# EAGLE library part STLINKV3MODS (library user_ic)
STlinkV3mods stlinkv3miniを基板上につけられるようにしたデバッグモジュール digikey[497-STLINK-V3MODS-ND] B = Bridge RESERVED = 予約済みのピン、利用不可
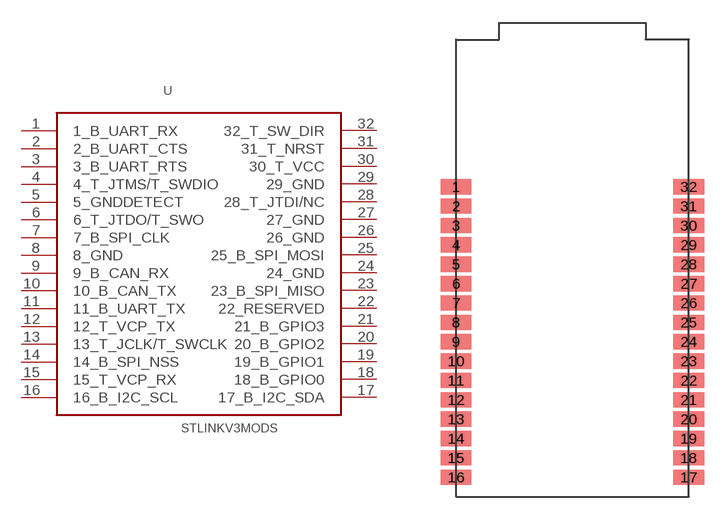
[diagram p27: symbol with the pads of STLINKV3MODS; footprint STLINKV3MODS]

Designator prefix -

## STLINKV3MODS  [STLINKV3MODS]
1  1_B_UART_RX
2  2_B_UART_CTS
3  3_B_UART_RTS
4  4_T_JTMS/T_SWDIO
5  5_GNDDETECT
6  6_T_JTDO/T_SWO
7  7_B_SPI_CLK
8  8_GND
9  9_B_CAN_RX
10  10_B_CAN_TX
11  11_B_UART_TX
12  12_T_VCP_TX
13  13_T_JCLK/T_SWCLK
14  14_B_SPI_NSS
15  15_T_VCP_RX
16  16_B_I2C_SCL
17  17_B_I2C_SDA
18  18_B_GPIO0
19  19_B_GPIO1
20  20_B_GPIO2
21  21_B_GPIO3
22  22_RESERVED
23  23_B_SPI_MISO
24  24_GND
25  25_B_SPI_MOSI
26  26_GND
27  27_GND
28  28_T_JTDI/NC
29  29_GND
30  30_T_VCC
31  31_T_NRST
32  32_T_SW_DIR

## Footprint STLINKV3MODS (pad centres in mm)
smd 2 x 1: 1 0,20.32; 2 0,19.05; 3 0,17.78; 4 0,16.51; 5 0,15.24; 6 0,13.97; 7 0,12.7; 8 0,11.43; 9 0,10.16; 10 0,8.89; 11 0,7.62; 12 0,6.35; 13 0,5.08; 14 0,3.81; 15 0,2.54; 16 0,1.27; 17 15.24,1.27; 18 15.24,2.54; 19 15.24,3.81; 20 15.24,5.08; 21 15.24,6.35; 22 15.24,7.62; 23 15.24,8.89; 24 15.24,10.16; 25 15.24,11.43; 26 15.24,12.7; 27 15.24,13.97; 28 15.24,15.24; 29 15.24,16.51; 30 15.24,17.78; 31 15.24,19.05; 32 15.24,20.32